# EAGLE library part MPT10 (library con-phoenix-254)
PHOENIX CONNECTOR
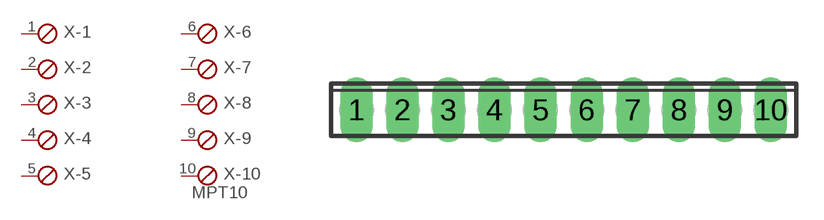
[diagram p4: symbol with the pads of 10POL254; footprint 10POL254]

Designator prefix X; gates -1=SKB -2=SKB -3=SKB -4=SKB -5=SKB -6=SKB -7=SKB -8=SKB -9=SKB -10=SKBV

## MPT10 (OC_FARNELL: unknown; OC_NEWARK: unknown)  [10POL254]
1  -1:1  pas
2  -2:1  pas
3  -3:1  pas
4  -4:1  pas
5  -5:1  pas
6  -6:1  pas
7  -7:1  pas
8  -8:1  pas
9  -9:1  pas
10  -10:1  pas

## Footprint 10POL254 (pad centres in mm)
PHOENIX CONNECTOR
drill 1.2 long: 1 -11.43,0; 2 -8.89,0; 3 -6.35,0; 4 -3.81,0; 5 -1.27,0; 6 1.27,0; 7 3.81,0; 8 6.35,0; 9 8.89,0; 10 11.43,0